# Altium schematic symbol library COMPONENTS.SchLib: 2 symbols
Pins are listed as number, name and electrical type; pins without a type are passive.

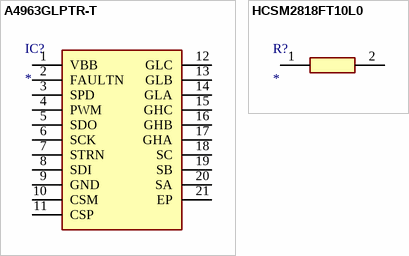
[diagram p0: symbols A4963GLPTR-T to HCSM2818FT10L0]

## A4963GLPTR-T
designator IC?
Integrated Circuit; Manufacturer_Name: Allegro Microsystems; Manufacturer_Part_Number: A4963GLPTR-T; Datasheet Link: https://www.allegromicro.com/~/media/Files/Datasheets/A4963-Datasheet.ashx; Height: 1.2mm; Mouser Part Number: 250-A4963GLPTR-T; Mouser Price/Stock: https://www.mouser.co.uk/ProductDetail/Allegro-MicroSystems/A4963GLPTR-T?qs=pUKx8fyJudBsbRJaBUG8MA%3D%3D; Arrow Part Number: A4963GLPTR-T; Arrow Price/Stock: https://www.arrow.com/en/products/a4963glptr-t/allegro-microsystems?region=nac
footprint A4405KLPTRT
pins: 1 VBB, 2 FAULTN, 3 SPD, 4 PWM, 5 SDO, 6 SCK, 7 STRN, 8 SDI, 9 GND, 10 CSM, 11 CSP, 12 GLC, 13 GLB, 14 GLA, 15 GHC, 16 GHB, 17 GHA, 18 SC, 19 SB, 20 SA, 21 EP

## HCSM2818FT10L0
designator R?
Resistor; Manufacturer_Name: Stackpole Electronics; Manufacturer_Part_Number: HCSM2818FT10L0; Datasheet Link: https://cs.seielect.com/catalog/SEI-HCSM.pdf; Height: 1.9mm; Arrow Part Number: HCSM2818FT10L0; Arrow Price/Stock: https://www.arrow.com/en/products/hcsm2818ft10l0/stackpole-electronics
footprint HCSM2818FT10L0
pins: 1, 2